# Altium footprint library 晶振封装库.PcbLib: 19 footprints (part 2 of 2)
Each footprint in its own frame and in the unit in brackets; x right, y up, seen from the top. Pads: shape width x height; smd on the part's side, far side on the other; paste and mask are expansions set on the pad; w line width, h text height; cw(c..) or ccw(c..) is an arc to the next point about the centre after c.
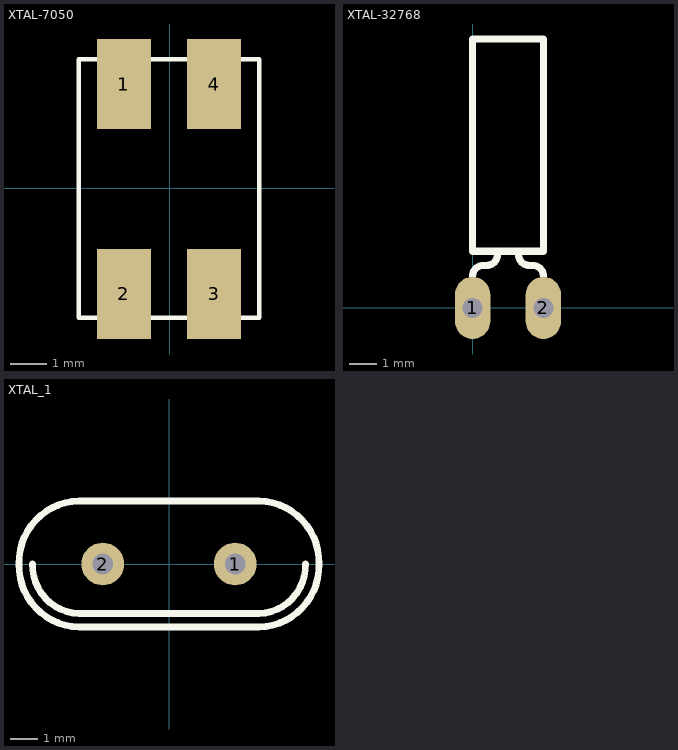
[diagram p1: the footprints below, top view; thin cyan lines are the x and y axes]

## XTAL-7050 [mm]
pads (4):
  rect 1.5x2.5 smd: 1(-1.27,2.894) 2(-1.27,-2.922) 3(1.23,-2.922) 4(1.23,2.894)
Top Overlay:
  lines w0.12: -2.52,-3.581 2.48,-3.581 2.48,3.581 -2.52,3.581 -2.52,-3.581
3D body: height 1, standoff 0, extent -2.5,-3.449 2.5,3.551

## XTAL-32768 [mil]
pads (2):
  oval 50x88 hole 28: 1(0,0) 2(100,0)
Top Overlay:
  lines w10: 0,45 cw(c15,45) 15,60 20,60 ccw(c20,75) 35,75 ; 65,75 ccw(c80,75) 80,60 85,60 cw(c85,45) 100,45 ; 0,80 0,380 100,380 100,80 0,80
3D body: height 125.98, standoff 0, extent -17.91,-28.43 117.91,395.79

## XTAL_1 [mil]
pads (2):
  round 62 hole 30: 1(96.06,0) 2(-96.06,0)
Top Overlay:
  lines w10: -197.83,0 ccw(c-128.25,-2.26) -130.51,-71.85 130.51,-71.85 ccw(c128.25,-2.26) 197.83,0 ; -217.52,0 ccw(c-128.25,-2.26) -130.51,-91.54 130.51,-91.54 ccw(c128.25,-2.26) 217.52,0 ccw(c128.25,2.26) 130.51,91.54 -130.51,91.54 ccw(c-128.25,2.26) -217.52,0
3D body: height 141.73, standoff -153.54, extent -223.43,-91.54 223.42,91.53